# Altium schematic symbol library 67997-104HLF.SchLib: 1 symbol
Pins are listed as number, name and electrical type; pins without a type are passive.

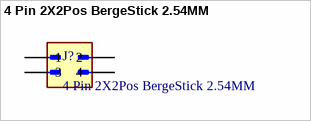
[diagram p0: symbol 4 Pin 2X2Pos BergeStick 2.54MM]

## 4 Pin 2X2Pos BergeStick 2.54MM
designator J?
4 Pin 2X2Pos THT BergeStick 2.54MM Amphenol 67997-104HLF 3A; MF: Amphenol ICC; Value: *; Package: None; Purchase-URL: https://pricing.snapeda.com/search/part/67997-104HLF/?ref=eda; Digi-Key_Part_Number: 609-3225-ND; Check_prices: https://www.snapeda.com/parts/67997-104HLF/Amphenol+FCI/view-part/?ref=eda; MP: 67997-104HLF; SnapEDA_Link: https://www.snapeda.com/parts/67997-104HLF/Amphenol+FCI/view-part/?ref=snap
footprint AMPHENOL_67997-104HLF
pins: 1, 2, 3, 4